# Altium schematic symbol library WCAP-CSMH.SchLib: 111 symbols (part 1 of 3)
Pins are listed as number, name and electrical type; pins without a type are passive.

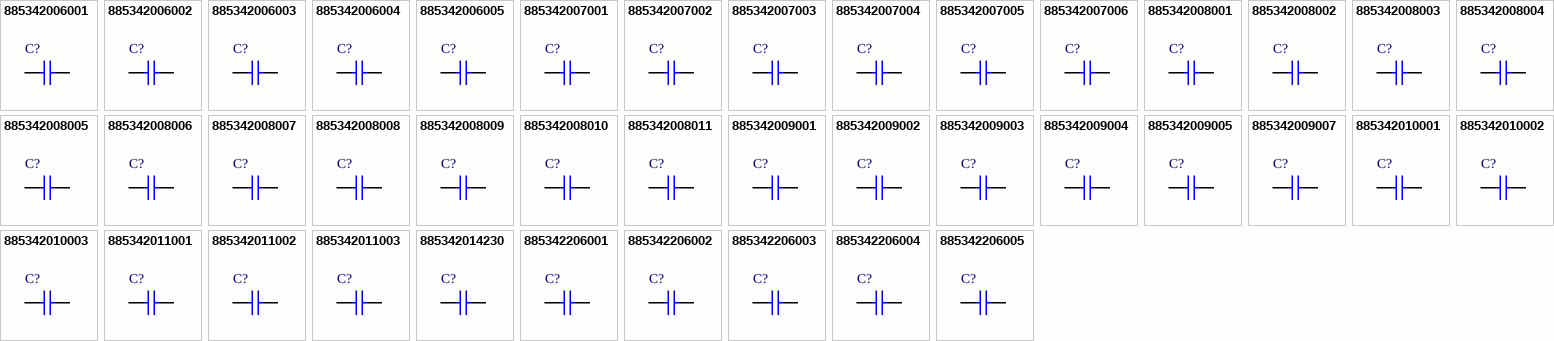
[diagram p0: symbols 885342006001 to 885342206005]

## 885342006001
designator C?, comment 10pF  (value not drawn)
WCAP-CSMH Multilayer Ceramic Chip Capacitor Mid and High Voltage, SMT, size 0603, NP0 Class I, 10pF, 250V; Manufacturer Part Number: 885342006001; Manufacturer: Wurth Elektronik; Case/Size Code: 0603; Capacitance Tolerance: +/-5%; Insulation Resistance: 10GΩ; Q Factor Min: 600; Category: Multilayer Ceramic Chip Capacitors; Match Code: WCAP-CSMH; ComponentLink1Description: Website Link; ComponentLink1URL: https://www.we-online.com/redexpert/article/885342006001?ad; ComponentLink2Description: Datasheet Link; ComponentLink2URL: https://www.we-online.com/redexpert/spec/885342006001?ad; Mount: Surface Mount; Min Operating Temperature: -55°C; Max Operating Temperature: 125°C; Packaging: Tape and Reel; Length: 1.6mm; Width: 0.8mm; Height: 0.8mm; Capacitance: 10pF; Ceramic Type: NP0 Class I; Rated Voltage (DC): 250V
footprint WCAP-CSMH_0603_H0.8_Reflow
footprint WCAP-CSMH_0603_H0.8_Wave
simulation model 0603_885342006001_10pF
pins: 1, 2

## 885342006002
designator C?, comment 33pF  (value not drawn)
WCAP-CSMH Multilayer Ceramic Chip Capacitor Mid and High Voltage, SMT, size 0603, NP0 Class I, 33pF, 250V; Manufacturer Part Number: 885342006002; Manufacturer: Wurth Elektronik; Case/Size Code: 0603; Capacitance Tolerance: +/-5%; Insulation Resistance: 10GΩ; Q Factor Min: 1000; Category: Multilayer Ceramic Chip Capacitors; Match Code: WCAP-CSMH; ComponentLink1Description: Website Link; ComponentLink1URL: https://www.we-online.com/redexpert/article/885342006002?ad; ComponentLink2Description: Datasheet Link; ComponentLink2URL: https://www.we-online.com/redexpert/spec/885342006002?ad; Mount: Surface Mount; Min Operating Temperature: -55°C; Max Operating Temperature: 125°C; Packaging: Tape and Reel; Length: 1.6mm; Width: 0.8mm; Height: 0.8mm; Capacitance: 33pF; Ceramic Type: NP0 Class I; Rated Voltage (DC): 250V
footprint WCAP-CSMH_0603_H0.8_Reflow
footprint WCAP-CSMH_0603_H0.8_Wave
simulation model 0603_885342006002_33pF
pins: 1, 2

## 885342006003
designator C?, comment 100pF  (value not drawn)
WCAP-CSMH Multilayer Ceramic Chip Capacitor Mid and High Voltage, SMT, size 0603, NP0 Class I, 100pF, 250V; Manufacturer Part Number: 885342006003; Manufacturer: Wurth Elektronik; Case/Size Code: 0603; Capacitance Tolerance: +/-5%; Insulation Resistance: 10GΩ; Q Factor Min: 1000; Category: Multilayer Ceramic Chip Capacitors; Match Code: WCAP-CSMH; ComponentLink1Description: Website Link; ComponentLink1URL: https://www.we-online.com/redexpert/article/885342006003?ad; ComponentLink2Description: Datasheet Link; ComponentLink2URL: https://www.we-online.com/redexpert/spec/885342006003?ad; Mount: Surface Mount; Min Operating Temperature: -55°C; Max Operating Temperature: 125°C; Packaging: Tape and Reel; Length: 1.6mm; Width: 0.8mm; Height: 0.8mm; Capacitance: 100pF; Ceramic Type: NP0 Class I; Rated Voltage (DC): 250V
footprint WCAP-CSMH_0603_H0.8_Reflow
footprint WCAP-CSMH_0603_H0.8_Wave
simulation model 0603_885342006003_100pF
pins: 1, 2

## 885342006004
designator C?, comment 220pF  (value not drawn)
WCAP-CSMH Multilayer Ceramic Chip Capacitor Mid and High Voltage, SMT, size 0603, NP0 Class I, 220pF, 250V; Manufacturer Part Number: 885342006004; Manufacturer: Wurth Elektronik; Case/Size Code: 0603; Capacitance Tolerance: +/-5%; Insulation Resistance: 10GΩ; Q Factor Min: 1000; Category: Multilayer Ceramic Chip Capacitors; Match Code: WCAP-CSMH; ComponentLink1Description: Website Link; ComponentLink1URL: https://www.we-online.com/redexpert/article/885342006004?ad; ComponentLink2Description: Datasheet Link; ComponentLink2URL: https://www.we-online.com/redexpert/spec/885342006004?ad; Mount: Surface Mount; Min Operating Temperature: -55°C; Max Operating Temperature: 125°C; Packaging: Tape and Reel; Length: 1.6mm; Width: 0.8mm; Height: 0.8mm; Capacitance: 220pF; Ceramic Type: NP0 Class I; Rated Voltage (DC): 250V
footprint WCAP-CSMH_0603_H0.8_Reflow
footprint WCAP-CSMH_0603_H0.8_Wave
simulation model 0603_885342006004_220pF
pins: 1, 2

## 885342006005
designator C?, comment 470pF  (value not drawn)
WCAP-CSMH Multilayer Ceramic Chip Capacitor Mid and High Voltage, SMT, size 0603, NP0 Class I, 470pF, 250V; Manufacturer Part Number: 885342006005; Manufacturer: Wurth Elektronik; Case/Size Code: 0603; Capacitance Tolerance: +/-5%; Insulation Resistance: 10GΩ; Q Factor Min: 1000; Category: Multilayer Ceramic Chip Capacitors; Match Code: WCAP-CSMH; ComponentLink1Description: Website Link; ComponentLink1URL: https://www.we-online.com/redexpert/article/885342006005?ad; ComponentLink2Description: Datasheet Link; ComponentLink2URL: https://www.we-online.com/redexpert/spec/885342006005?ad; Mount: Surface Mount; Min Operating Temperature: -55°C; Max Operating Temperature: 125°C; Packaging: Tape and Reel; Length: 1.6mm; Width: 0.8mm; Height: 0.8mm; Capacitance: 470pF; Ceramic Type: NP0 Class I; Rated Voltage (DC): 250V
footprint WCAP-CSMH_0603_H0.8_Reflow
footprint WCAP-CSMH_0603_H0.8_Wave
simulation model 0603_885342006005_470pF
pins: 1, 2

## 885342007001
designator C?, comment 220pF  (value not drawn)
WCAP-CSMH Multilayer Ceramic Chip Capacitor Mid and High Voltage, SMT, size 0805, NP0 Class I, 220pF, 200V; Manufacturer Part Number: 885342007001; Manufacturer: Wurth Elektronik; Case/Size Code: 0805; Capacitance Tolerance: +/-5%; Insulation Resistance: 10GΩ; Q Factor Min: 1000; Category: Multilayer Ceramic Chip Capacitors; Match Code: WCAP-CSMH; ComponentLink1Description: Website Link; ComponentLink1URL: https://www.we-online.com/redexpert/article/885342007001?ad; ComponentLink2Description: Datasheet Link; ComponentLink2URL: https://www.we-online.com/redexpert/spec/885342007001?ad; Mount: Surface Mount; Min Operating Temperature: -55°C; Max Operating Temperature: 125°C; Packaging: Tape and Reel; Length: 2mm; Width: 1.25mm; Height: 1.25mm; Capacitance: 220pF; Ceramic Type: NP0 Class I; Rated Voltage (DC): 200V
footprint WCAP-CSMH_0805_H1.25
simulation model 0805_885342007001_220pF
pins: 1, 2

## 885342007002
designator C?, comment 330pF  (value not drawn)
WCAP-CSMH Multilayer Ceramic Chip Capacitor Mid and High Voltage, SMT, size 0805, NP0 Class I, 330pF, 200V; Manufacturer Part Number: 885342007002; Manufacturer: Wurth Elektronik; Case/Size Code: 0805; Capacitance Tolerance: +/-5%; Insulation Resistance: 10GΩ; Q Factor Min: 1000; Category: Multilayer Ceramic Chip Capacitors; Match Code: WCAP-CSMH; ComponentLink1Description: Website Link; ComponentLink1URL: https://www.we-online.com/redexpert/article/885342007002?ad; ComponentLink2Description: Datasheet Link; ComponentLink2URL: https://www.we-online.com/redexpert/spec/885342007002?ad; Mount: Surface Mount; Min Operating Temperature: -55°C; Max Operating Temperature: 125°C; Packaging: Tape and Reel; Length: 2mm; Width: 1.25mm; Height: 1.25mm; Capacitance: 330pF; Ceramic Type: NP0 Class I; Rated Voltage (DC): 200V
footprint WCAP-CSMH_0805_H1.25
simulation model 0805_885342007002_330pF
pins: 1, 2

## 885342007003
designator C?, comment 1nF  (value not drawn)
WCAP-CSMH Multilayer Ceramic Chip Capacitor Mid and High Voltage, SMT, size 0805, NP0 Class I, 1nF, 200V; Manufacturer Part Number: 885342007003; Manufacturer: Wurth Elektronik; Case/Size Code: 0805; Capacitance Tolerance: +/-5%; Insulation Resistance: 10GΩ; Q Factor Min: 1000; Category: Multilayer Ceramic Chip Capacitors; Match Code: WCAP-CSMH; ComponentLink1Description: Website Link; ComponentLink1URL: https://www.we-online.com/redexpert/article/885342007003?ad; ComponentLink2Description: Datasheet Link; ComponentLink2URL: https://www.we-online.com/redexpert/spec/885342007003?ad; Mount: Surface Mount; Min Operating Temperature: -55°C; Max Operating Temperature: 125°C; Packaging: Tape and Reel; Length: 2mm; Width: 1.25mm; Height: 1.25mm; Capacitance: 1nF; Ceramic Type: NP0 Class I; Rated Voltage (DC): 200V
footprint WCAP-CSMH_0805_H1.25
simulation model 0805_885342007003_1nF
pins: 1, 2

## 885342007004
designator C?, comment 15pF  (value not drawn)
WCAP-CSMH Multilayer Ceramic Chip Capacitor Mid and High Voltage, SMT, size 0805, NP0 Class I, 15pF, 250V; Manufacturer Part Number: 885342007004; Manufacturer: Wurth Elektronik; Case/Size Code: 0805; Capacitance Tolerance: +/-5%; Insulation Resistance: 10GΩ; Q Factor Min: 700; Category: Multilayer Ceramic Chip Capacitors; Match Code: WCAP-CSMH; ComponentLink1Description: Website Link; ComponentLink1URL: https://www.we-online.com/redexpert/article/885342007004?ad; ComponentLink2Description: Datasheet Link; ComponentLink2URL: https://www.we-online.com/redexpert/spec/885342007004?ad; Mount: Surface Mount; Min Operating Temperature: -55°C; Max Operating Temperature: 125°C; Packaging: Tape and Reel; Length: 2mm; Width: 1.25mm; Height: 0.6mm; Capacitance: 15pF; Ceramic Type: NP0 Class I; Rated Voltage (DC): 250V
footprint WCAP-CSMH_0805_H0.6_Reflow
footprint WCAP-CSMH_0805_H0.6_Wave
simulation model 0805_885342007004_15pF
pins: 1, 2

## 885342007005
designator C?, comment 2.2nF  (value not drawn)
WCAP-CSMH Multilayer Ceramic Chip Capacitor Mid and High Voltage, SMT, size 0805, NP0 Class I, 2.2nF, 250V; Manufacturer Part Number: 885342007005; Manufacturer: Wurth Elektronik; Case/Size Code: 0805; Capacitance Tolerance: +/-5%; Insulation Resistance: 10GΩ; Q Factor Min: 1000; Category: Multilayer Ceramic Chip Capacitors; Match Code: WCAP-CSMH; ComponentLink1Description: Website Link; ComponentLink1URL: https://www.we-online.com/redexpert/article/885342007005?ad; ComponentLink2Description: Datasheet Link; ComponentLink2URL: https://www.we-online.com/redexpert/spec/885342007005?ad; Mount: Surface Mount; Min Operating Temperature: -55°C; Max Operating Temperature: 125°C; Packaging: Tape and Reel; Length: 2mm; Width: 1.25mm; Height: 1.25mm; Capacitance: 2.2nF; Ceramic Type: NP0 Class I; Rated Voltage (DC): 250V
footprint WCAP-CSMH_0805_H1.25
simulation model 0805_885342007005_2.2nF
pins: 1, 2

## 885342007006
designator C?, comment 47pF  (value not drawn)
WCAP-CSMH Multilayer Ceramic Chip Capacitor Mid and High Voltage, SMT, size 0805, NP0 Class I, 47pF, 500V; Manufacturer Part Number: 885342007006; Manufacturer: Wurth Elektronik; Case/Size Code: 0805; Capacitance Tolerance: +/-5%; Insulation Resistance: 10GΩ; Q Factor Min: 1000; Category: Multilayer Ceramic Chip Capacitors; Match Code: WCAP-CSMH; ComponentLink1Description: Website Link; ComponentLink1URL: https://www.we-online.com/redexpert/article/885342007006?ad; ComponentLink2Description: Datasheet Link; ComponentLink2URL: https://www.we-online.com/redexpert/spec/885342007006?ad; Mount: Surface Mount; Min Operating Temperature: -55°C; Max Operating Temperature: 125°C; Packaging: Tape and Reel; Length: 2mm; Width: 1.25mm; Height: 0.6mm; Capacitance: 47pF; Ceramic Type: NP0 Class I; Rated Voltage (DC): 500V
footprint WCAP-CSMH_0805_H0.6_Reflow
footprint WCAP-CSMH_0805_H0.6_Wave
simulation model 0805_885342007006_47pF
pins: 1, 2

## 885342008001
designator C?, comment 47pF  (value not drawn)
WCAP-CSMH Multilayer Ceramic Chip Capacitor Mid and High Voltage, SMT, size 1206, NP0 Class I, 47pF, 500V; Manufacturer Part Number: 885342008001; Manufacturer: Wurth Elektronik; Case/Size Code: 1206; Capacitance Tolerance: +/-5%; Insulation Resistance: 10GΩ; Q Factor Min: 1000; Category: Multilayer Ceramic Chip Capacitors; Match Code: WCAP-CSMH; ComponentLink1Description: Website Link; ComponentLink1URL: https://www.we-online.com/redexpert/article/885342008001?ad; ComponentLink2Description: Datasheet Link; ComponentLink2URL: https://www.we-online.com/redexpert/spec/885342008001?ad; Mount: Surface Mount; Min Operating Temperature: -55°C; Max Operating Temperature: 125°C; Packaging: Tape and Reel; Length: 3.2mm; Width: 1.6mm; Height: 0.8mm; Capacitance: 47pF; Ceramic Type: NP0 Class I; Rated Voltage (DC): 500V
footprint WCAP-CSMH_1206_H0.8_Reflow
footprint WCAP-CSMH_1206_H0.8_Wave
simulation model 1206_885342008001_47pF
pins: 1, 2

## 885342008002
designator C?, comment 220pF  (value not drawn)
WCAP-CSMH Multilayer Ceramic Chip Capacitor Mid and High Voltage, SMT, size 1206, NP0 Class I, 220pF, 500V; Manufacturer Part Number: 885342008002; Manufacturer: Wurth Elektronik; Case/Size Code: 1206; Capacitance Tolerance: +/-5%; Insulation Resistance: 10GΩ; Q Factor Min: 1000; Category: Multilayer Ceramic Chip Capacitors; Match Code: WCAP-CSMH; ComponentLink1Description: Website Link; ComponentLink1URL: https://www.we-online.com/redexpert/article/885342008002?ad; ComponentLink2Description: Datasheet Link; ComponentLink2URL: https://www.we-online.com/redexpert/spec/885342008002?ad; Mount: Surface Mount; Min Operating Temperature: -55°C; Max Operating Temperature: 125°C; Packaging: Tape and Reel; Length: 3.2mm; Width: 1.6mm; Height: 0.8mm; Capacitance: 220pF; Ceramic Type: NP0 Class I; Rated Voltage (DC): 500V
footprint WCAP-CSMH_1206_H0.8_Reflow
footprint WCAP-CSMH_1206_H0.8_Wave
simulation model 1206_885342008002_220pF
pins: 1, 2

## 885342008003
designator C?, comment 1nF  (value not drawn)
WCAP-CSMH Multilayer Ceramic Chip Capacitor Mid and High Voltage, SMT, size 1206, NP0 Class I, 1nF, 500V; Manufacturer Part Number: 885342008003; Manufacturer: Wurth Elektronik; Case/Size Code: 1206; Capacitance Tolerance: +/-5%; Insulation Resistance: 10GΩ; Q Factor Min: 1000; Category: Multilayer Ceramic Chip Capacitors; Match Code: WCAP-CSMH; ComponentLink1Description: Website Link; ComponentLink1URL: https://www.we-online.com/redexpert/article/885342008003?ad; ComponentLink2Description: Datasheet Link; ComponentLink2URL: https://www.we-online.com/redexpert/spec/885342008003?ad; Mount: Surface Mount; Min Operating Temperature: -55°C; Max Operating Temperature: 125°C; Packaging: Tape and Reel; Length: 3.2mm; Width: 1.6mm; Height: 1.6mm; Capacitance: 1nF; Ceramic Type: NP0 Class I; Rated Voltage (DC): 500V
footprint WCAP-CSMH_1206_H1.6
simulation model 1206_885342008003_1nF
pins: 1, 2

## 885342008004
designator C?, comment 100pF  (value not drawn)
WCAP-CSMH Multilayer Ceramic Chip Capacitor Mid and High Voltage, SMT, size 1206, NP0 Class I, 100pF, 630V; Manufacturer Part Number: 885342008004; Manufacturer: Wurth Elektronik; Case/Size Code: 1206; Capacitance Tolerance: +/-5%; Insulation Resistance: 10GΩ; Q Factor Min: 1000; Category: Multilayer Ceramic Chip Capacitors; Match Code: WCAP-CSMH; ComponentLink1Description: Website Link; ComponentLink1URL: https://www.we-online.com/redexpert/article/885342008004?ad; ComponentLink2Description: Datasheet Link; ComponentLink2URL: https://www.we-online.com/redexpert/spec/885342008004?ad; Mount: Surface Mount; Min Operating Temperature: -55°C; Max Operating Temperature: 125°C; Packaging: Tape and Reel; Length: 3.2mm; Width: 1.6mm; Height: 0.8mm; Capacitance: 100pF; Ceramic Type: NP0 Class I; Rated Voltage (DC): 630V
footprint WCAP-CSMH_1206_H0.8_Reflow
footprint WCAP-CSMH_1206_H0.8_Wave
simulation model 1206_885342008004_100pF
pins: 1, 2

## 885342008005
designator C?, comment 1nF  (value not drawn)
WCAP-CSMH Multilayer Ceramic Chip Capacitor Mid and High Voltage, SMT, size 1206, NP0 Class I, 1nF, 630V; Manufacturer Part Number: 885342008005; Manufacturer: Wurth Elektronik; Case/Size Code: 1206; Capacitance Tolerance: +/-5%; Insulation Resistance: 10GΩ; Q Factor Min: 1000; Category: Multilayer Ceramic Chip Capacitors; Match Code: WCAP-CSMH; ComponentLink1Description: Website Link; ComponentLink1URL: https://www.we-online.com/redexpert/article/885342008005?ad; ComponentLink2Description: Datasheet Link; ComponentLink2URL: https://www.we-online.com/redexpert/spec/885342008005?ad; Mount: Surface Mount; Min Operating Temperature: -55°C; Max Operating Temperature: 125°C; Packaging: Tape and Reel; Length: 3.2mm; Width: 1.6mm; Height: 1.6mm; Capacitance: 1nF; Ceramic Type: NP0 Class I; Rated Voltage (DC): 630V
footprint WCAP-CSMH_1206_H1.6
simulation model 1206_885342008005_1nF
pins: 1, 2

## 885342008006
designator C?, comment 1.5nF  (value not drawn)
WCAP-CSMH Multilayer Ceramic Chip Capacitor Mid and High Voltage, SMT, size 1206, NP0 Class I, 1.5nF, 630V; Manufacturer Part Number: 885342008006; Manufacturer: Wurth Elektronik; Case/Size Code: 1206; Capacitance Tolerance: +/-5%; Insulation Resistance: 10GΩ; Q Factor Min: 1000; Category: Multilayer Ceramic Chip Capacitors; Match Code: WCAP-CSMH; ComponentLink1Description: Website Link; ComponentLink1URL: https://www.we-online.com/redexpert/article/885342008006?ad; ComponentLink2Description: Datasheet Link; ComponentLink2URL: https://www.we-online.com/redexpert/spec/885342008006?ad; Mount: Surface Mount; Min Operating Temperature: -55°C; Max Operating Temperature: 125°C; Packaging: Tape and Reel; Length: 3.2mm; Width: 1.6mm; Height: 1.6mm; Capacitance: 1.5nF; Ceramic Type: NP0 Class I; Rated Voltage (DC): 630V
footprint WCAP-CSMH_1206_H1.6
simulation model 1206_885342008006_1.5nF
pins: 1, 2

## 885342008007
designator C?, comment 2.2nF  (value not drawn)
WCAP-CSMH Multilayer Ceramic Chip Capacitor Mid and High Voltage, SMT, size 1206, NP0 Class I, 2.2nF, 630V; Manufacturer Part Number: 885342008007; Manufacturer: Wurth Elektronik; Case/Size Code: 1206; Capacitance Tolerance: +/-5%; Insulation Resistance: 10GΩ; Q Factor Min: 1000; Category: Multilayer Ceramic Chip Capacitors; Match Code: WCAP-CSMH; ComponentLink1Description: Website Link; ComponentLink1URL: https://www.we-online.com/redexpert/article/885342008007?ad; ComponentLink2Description: Datasheet Link; ComponentLink2URL: https://www.we-online.com/redexpert/spec/885342008007?ad; Mount: Surface Mount; Min Operating Temperature: -55°C; Max Operating Temperature: 125°C; Packaging: Tape and Reel; Length: 3.2mm; Width: 1.6mm; Height: 1.6mm; Capacitance: 2.2nF; Ceramic Type: NP0 Class I; Rated Voltage (DC): 630V
footprint WCAP-CSMH_1206_H1.6
simulation model 1206_885342008007_2.2nF
pins: 1, 2

## 885342008008
designator C?, comment 22pF  (value not drawn)
WCAP-CSMH Multilayer Ceramic Chip Capacitor Mid and High Voltage, SMT, size 1206, NP0 Class I, 22pF, 1000V; Manufacturer Part Number: 885342008008; Manufacturer: Wurth Elektronik; Case/Size Code: 1206; Capacitance Tolerance: +/-5%; Insulation Resistance: 10GΩ; Q Factor Min: 840; Category: Multilayer Ceramic Chip Capacitors; Match Code: WCAP-CSMH; ComponentLink1Description: Website Link; ComponentLink1URL: https://www.we-online.com/redexpert/article/885342008008?ad; ComponentLink2Description: Datasheet Link; ComponentLink2URL: https://www.we-online.com/redexpert/spec/885342008008?ad; Mount: Surface Mount; Min Operating Temperature: -55°C; Max Operating Temperature: 125°C; Packaging: Tape and Reel; Length: 3.2mm; Width: 1.6mm; Height: 0.8mm; Capacitance: 22pF; Ceramic Type: NP0 Class I; Rated Voltage (DC): 1000V
footprint WCAP-CSMH_1206_H0.8_Reflow
footprint WCAP-CSMH_1206_H0.8_Wave
simulation model 1206_885342008008_22pF
pins: 1, 2

## 885342008009
designator C?, comment 100pF  (value not drawn)
WCAP-CSMH Multilayer Ceramic Chip Capacitor Mid and High Voltage, SMT, size 1206, NP0 Class I, 100pF, 1000V; Manufacturer Part Number: 885342008009; Manufacturer: Wurth Elektronik; Case/Size Code: 1206; Capacitance Tolerance: +/-5%; Insulation Resistance: 10GΩ; Q Factor Min: 1000; Category: Multilayer Ceramic Chip Capacitors; Match Code: WCAP-CSMH; ComponentLink1Description: Website Link; ComponentLink1URL: https://www.we-online.com/redexpert/article/885342008009?ad; ComponentLink2Description: Datasheet Link; ComponentLink2URL: https://www.we-online.com/redexpert/spec/885342008009?ad; Mount: Surface Mount; Min Operating Temperature: -55°C; Max Operating Temperature: 125°C; Packaging: Tape and Reel; Length: 3.2mm; Width: 1.6mm; Height: 1.25mm; Capacitance: 100pF; Ceramic Type: NP0 Class I; Rated Voltage (DC): 1000V
footprint WCAP-CSMH_1206_H1.25
simulation model 1206_885342008009_100pF
pins: 1, 2

## 885342008010
designator C?, comment 68pF  (value not drawn)
WCAP-CSMH Multilayer Ceramic Chip Capacitor Mid and High Voltage, SMT, size 1206, NP0 Class I, 68pF, 2000V; Manufacturer Part Number: 885342008010; Manufacturer: Wurth Elektronik; Case/Size Code: 1206; Capacitance Tolerance: +/-5%; Insulation Resistance: 10GΩ; Q Factor Min: 1000; Category: Multilayer Ceramic Chip Capacitors; Match Code: WCAP-CSMH; ComponentLink1Description: Website Link; ComponentLink1URL: https://www.we-online.com/redexpert/article/885342008010?ad; ComponentLink2Description: Datasheet Link; ComponentLink2URL: https://www.we-online.com/redexpert/spec/885342008010?ad; Mount: Surface Mount; Min Operating Temperature: -55°C; Max Operating Temperature: 125°C; Packaging: Tape and Reel; Length: 3.2mm; Width: 1.6mm; Height: 1.25mm; Capacitance: 68pF; Ceramic Type: NP0 Class I; Rated Voltage (DC): 2000V
footprint WCAP-CSMH_1206_H1.25
simulation model 1206_885342008010_68pF
pins: 1, 2

## 885342008011
designator C?, comment 100pF  (value not drawn)
WCAP-CSMH Multilayer Ceramic Chip Capacitor Mid and High Voltage, SMT, size 1206, NP0 Class I, 100pF, 2000V; Manufacturer Part Number: 885342008011; Manufacturer: Wurth Elektronik; Case/Size Code: 1206; Capacitance Tolerance: +/-5%; Insulation Resistance: 10GΩ; Q Factor Min: 1000; Category: Multilayer Ceramic Chip Capacitors; Match Code: WCAP-CSMH; ComponentLink1Description: Website Link; ComponentLink1URL: https://www.we-online.com/redexpert/article/885342008011?ad; ComponentLink2Description: Datasheet Link; ComponentLink2URL: https://www.we-online.com/redexpert/spec/885342008011?ad; Mount: Surface Mount; Min Operating Temperature: -55°C; Max Operating Temperature: 125°C; Packaging: Tape and Reel; Length: 3.2mm; Width: 1.6mm; Height: 1.25mm; Capacitance: 100pF; Ceramic Type: NP0 Class I; Rated Voltage (DC): 2000V
footprint WCAP-CSMH_1206_H1.25
simulation model 1206_885342008011_100pF
pins: 1, 2

## 885342009001
designator C?, comment 4.7nF  (value not drawn)
WCAP-CSMH Multilayer Ceramic Chip Capacitor Mid and High Voltage, SMT, size 1210, NP0 Class I, 4.7nF, 200V; Manufacturer Part Number: 885342009001; Manufacturer: Wurth Elektronik; Case/Size Code: 1210; Capacitance Tolerance: +/-5%; Insulation Resistance: 10GΩ; Q Factor Min: 1000; Category: Multilayer Ceramic Chip Capacitors; Match Code: WCAP-CSMH; ComponentLink1Description: Website Link; ComponentLink1URL: https://www.we-online.com/redexpert/article/885342009001?ad; ComponentLink2Description: Datasheet Link; ComponentLink2URL: https://www.we-online.com/redexpert/spec/885342009001?ad; Mount: Surface Mount; Min Operating Temperature: -55°C; Max Operating Temperature: 125°C; Packaging: Tape and Reel; Length: 3.2mm; Width: 2.5mm; Height: 1.6mm; Capacitance: 4.7nF; Ceramic Type: NP0 Class I; Rated Voltage (DC): 200V
footprint WCAP-CSMH_1210_H1.6
simulation model 1210_885342009001_4.7nF
pins: 1, 2

## 885342009002
designator C?, comment 22pF  (value not drawn)
WCAP-CSMH Multilayer Ceramic Chip Capacitor Mid and High Voltage, SMT, size 1210, NP0 Class I, 22pF, 1000V; Manufacturer Part Number: 885342009002; Manufacturer: Wurth Elektronik; Case/Size Code: 1210; Capacitance Tolerance: +/-5%; Insulation Resistance: 10GΩ; Q Factor Min: 840; Category: Multilayer Ceramic Chip Capacitors; Match Code: WCAP-CSMH; ComponentLink1Description: Website Link; ComponentLink1URL: https://www.we-online.com/redexpert/article/885342009002?ad; ComponentLink2Description: Datasheet Link; ComponentLink2URL: https://www.we-online.com/redexpert/spec/885342009002?ad; Mount: Surface Mount; Min Operating Temperature: -55°C; Max Operating Temperature: 125°C; Packaging: Tape and Reel; Length: 3.2mm; Width: 2.5mm; Height: 0.95mm; Capacitance: 22pF; Ceramic Type: NP0 Class I; Rated Voltage (DC): 1000V
footprint WCAP-CSMH_1210_H0.95
simulation model 1210_885342009002_22pF
pins: 1, 2

## 885342009003
designator C?, comment 1nF  (value not drawn)
WCAP-CSMH Multilayer Ceramic Chip Capacitor Mid and High Voltage, SMT, size 1210, NP0 Class I, 1nF, 1000V; Manufacturer Part Number: 885342009003; Manufacturer: Wurth Elektronik; Case/Size Code: 1210; Capacitance Tolerance: +/-5%; Insulation Resistance: 10GΩ; Q Factor Min: 1000; Category: Multilayer Ceramic Chip Capacitors; Match Code: WCAP-CSMH; ComponentLink1Description: Website Link; ComponentLink1URL: https://www.we-online.com/redexpert/article/885342009003?ad; ComponentLink2Description: Datasheet Link; ComponentLink2URL: https://www.we-online.com/redexpert/spec/885342009003?ad; Mount: Surface Mount; Min Operating Temperature: -55°C; Max Operating Temperature: 125°C; Packaging: Tape and Reel; Length: 3.2mm; Width: 2.5mm; Height: 1.6mm; Capacitance: 1nF; Ceramic Type: NP0 Class I; Rated Voltage (DC): 1000V
footprint WCAP-CSMH_1210_H1.6
simulation model 1210_885342009003_1nF
pins: 1, 2

## 885342009004
designator C?, comment 10pF  (value not drawn)
WCAP-CSMH Multilayer Ceramic Chip Capacitor Mid and High Voltage, SMT, size 1210, NP0 Class I, 10pF, 2000V; Manufacturer Part Number: 885342009004; Manufacturer: Wurth Elektronik; Case/Size Code: 1210; Capacitance Tolerance: +/-5%; Insulation Resistance: 10GΩ; Q Factor Min: 600; Category: Multilayer Ceramic Chip Capacitors; Match Code: WCAP-CSMH; ComponentLink1Description: Website Link; ComponentLink1URL: https://www.we-online.com/redexpert/article/885342009004?ad; ComponentLink2Description: Datasheet Link; ComponentLink2URL: https://www.we-online.com/redexpert/spec/885342009004?ad; Mount: Surface Mount; Min Operating Temperature: -55°C; Max Operating Temperature: 125°C; Packaging: Tape and Reel; Length: 3.2mm; Width: 2.5mm; Height: 0.95mm; Capacitance: 10pF; Ceramic Type: NP0 Class I; Rated Voltage (DC): 2000V
footprint WCAP-CSMH_1210_H0.95
simulation model 1210_885342009004_10pF
pins: 1, 2

## 885342009005
designator C?, comment 220pF  (value not drawn)
WCAP-CSMH Multilayer Ceramic Chip Capacitor Mid and High Voltage, SMT, size 1210, NP0 Class I, 220pF, 2000V; Manufacturer Part Number: 885342009005; Manufacturer: Wurth Elektronik; Case/Size Code: 1210; Capacitance Tolerance: +/-5%; Insulation Resistance: 10GΩ; Q Factor Min: 1000; Category: Multilayer Ceramic Chip Capacitors; Match Code: WCAP-CSMH; ComponentLink1Description: Website Link; ComponentLink1URL: https://www.we-online.com/redexpert/article/885342009005?ad; ComponentLink2Description: Datasheet Link; ComponentLink2URL: https://www.we-online.com/redexpert/spec/885342009005?ad; Mount: Surface Mount; Min Operating Temperature: -55°C; Max Operating Temperature: 125°C; Packaging: Tape and Reel; Length: 3.2mm; Width: 2.5mm; Height: 1.6mm; Capacitance: 220pF; Ceramic Type: NP0 Class I; Rated Voltage (DC): 2000V
footprint WCAP-CSMH_1210_H1.6
simulation model 1210_885342009005_220pF
pins: 1, 2

## 885342009007
designator C?, comment 5.6nF  (value not drawn)
WCAP-CSMH Multilayer Ceramic Chip Capacitor Mid and High Voltage, SMT, size 1210, NP0 Class I, 5.6nF, 1000V; Manufacturer Part Number: 885342009007; Manufacturer: Wurth Elektronik; Case/Size Code: 1210; Capacitance Tolerance: +/-5%; Insulation Resistance: 10GΩ; Category: Multilayer Ceramic Chip Capacitors; Match Code: WCAP-CSMH; ComponentLink1Description: Website Link; ComponentLink1URL: https://www.we-online.com/redexpert/article/885342009007?ad; ComponentLink2Description: Datasheet Link; ComponentLink2URL: https://www.we-online.com/redexpert/spec/885342009007?ad; Mount: Surface Mount; Min Operating Temperature: -55°C; Max Operating Temperature: 125°C; Packaging: Tape and Reel; Length: 3.2mm; Width: 2.5mm; Height: 1.6mm; Capacitance: 5.6nF; Ceramic Type: NP0 Class I; Rated Voltage (DC): 1000V
footprint WCAP-CSMH_1210_H1.6
simulation model 1210_885342009007_5.6nF
pins: 1, 2

## 885342010001
designator C?, comment 10pF  (value not drawn)
WCAP-CSMH Multilayer Ceramic Chip Capacitor Mid and High Voltage, SMT, size 1808, NP0 Class I, 10pF, 3000V; Manufacturer Part Number: 885342010001; Manufacturer: Wurth Elektronik; Case/Size Code: 1808; Capacitance Tolerance: +/-5%; Insulation Resistance: 10GΩ; Q Factor Min: 600; Category: Multilayer Ceramic Chip Capacitors; Match Code: WCAP-CSMH; ComponentLink1Description: Website Link; ComponentLink1URL: https://www.we-online.com/redexpert/article/885342010001?ad; ComponentLink2Description: Datasheet Link; ComponentLink2URL: https://www.we-online.com/redexpert/spec/885342010001?ad; Mount: Surface Mount; Min Operating Temperature: -55°C; Max Operating Temperature: 125°C; Packaging: Tape and Reel; Length: 4.5mm; Width: 2.03mm; Height: 1.25mm; Capacitance: 10pF; Ceramic Type: NP0 Class I; Rated Voltage (DC): 3000V
footprint WCAP-CSMH_1808_H1.25
simulation model 1808_885342010001_10pF
pins: 1, 2

## 885342010002
designator C?, comment 68pF  (value not drawn)
WCAP-CSMH Multilayer Ceramic Chip Capacitor Mid and High Voltage, SMT, size 1808, NP0 Class I, 68pF, 3000V; Manufacturer Part Number: 885342010002; Manufacturer: Wurth Elektronik; Case/Size Code: 1808; Capacitance Tolerance: +/-5%; Insulation Resistance: 10GΩ; Q Factor Min: 1000; Category: Multilayer Ceramic Chip Capacitors; Match Code: WCAP-CSMH; ComponentLink1Description: Website Link; ComponentLink1URL: https://www.we-online.com/redexpert/article/885342010002?ad; ComponentLink2Description: Datasheet Link; ComponentLink2URL: https://www.we-online.com/redexpert/spec/885342010002?ad; Mount: Surface Mount; Min Operating Temperature: -55°C; Max Operating Temperature: 125°C; Packaging: Tape and Reel; Length: 4.5mm; Width: 2.03mm; Height: 1.25mm; Capacitance: 68pF; Ceramic Type: NP0 Class I; Rated Voltage (DC): 3000V
footprint WCAP-CSMH_1808_H1.25
simulation model 1808_885342010002_68pF
pins: 1, 2

## 885342010003
designator C?, comment 100pF  (value not drawn)
WCAP-CSMH Multilayer Ceramic Chip Capacitor Mid and High Voltage, SMT, size 1808, NP0 Class I, 100pF, 3000V; Manufacturer Part Number: 885342010003; Manufacturer: Wurth Elektronik; Case/Size Code: 1808; Capacitance Tolerance: +/-5%; Insulation Resistance: 10GΩ; Q Factor Min: 1000; Category: Multilayer Ceramic Chip Capacitors; Match Code: WCAP-CSMH; ComponentLink1Description: Website Link; ComponentLink1URL: https://www.we-online.com/redexpert/article/885342010003?ad; ComponentLink2Description: Datasheet Link; ComponentLink2URL: https://www.we-online.com/redexpert/spec/885342010003?ad; Mount: Surface Mount; Min Operating Temperature: -55°C; Max Operating Temperature: 125°C; Packaging: Tape and Reel; Length: 4.5mm; Width: 2.03mm; Height: 2mm; Capacitance: 100pF; Ceramic Type: NP0 Class I; Rated Voltage (DC): 3000V
footprint WCAP-CSMH_1808_H2
simulation model 1808_885342010003_100pF
pins: 1, 2

## 885342011001
designator C?, comment 1nF  (value not drawn)
WCAP-CSMH Multilayer Ceramic Chip Capacitor Mid and High Voltage, SMT, size 1812, NP0 Class I, 1nF, 500V; Manufacturer Part Number: 885342011001; Manufacturer: Wurth Elektronik; Case/Size Code: 1812; Capacitance Tolerance: +/-5%; Insulation Resistance: 10GΩ; Q Factor Min: 1000; Category: Multilayer Ceramic Chip Capacitors; Match Code: WCAP-CSMH; ComponentLink1Description: Website Link; ComponentLink1URL: https://www.we-online.com/redexpert/article/885342011001?ad; ComponentLink2Description: Datasheet Link; ComponentLink2URL: https://www.we-online.com/redexpert/spec/885342011001?ad; Mount: Surface Mount; Min Operating Temperature: -55°C; Max Operating Temperature: 125°C; Packaging: Tape and Reel; Length: 4.5mm; Width: 3.2mm; Height: 1.25mm; Capacitance: 1nF; Ceramic Type: NP0 Class I; Rated Voltage (DC): 500V
footprint WCAP-CSMH_1812_H1.25
simulation model 1812_885342011001_1nF
pins: 1, 2

## 885342011002
designator C?, comment 100pF  (value not drawn)
WCAP-CSMH Multilayer Ceramic Chip Capacitor Mid and High Voltage, SMT, size 1812, NP0 Class I, 100pF, 1000V; Manufacturer Part Number: 885342011002; Manufacturer: Wurth Elektronik; Case/Size Code: 1812; Capacitance Tolerance: +/-5%; Insulation Resistance: 10GΩ; Q Factor Min: 1000; Category: Multilayer Ceramic Chip Capacitors; Match Code: WCAP-CSMH; ComponentLink1Description: Website Link; ComponentLink1URL: https://www.we-online.com/redexpert/article/885342011002?ad; ComponentLink2Description: Datasheet Link; ComponentLink2URL: https://www.we-online.com/redexpert/spec/885342011002?ad; Mount: Surface Mount; Min Operating Temperature: -55°C; Max Operating Temperature: 125°C; Packaging: Tape and Reel; Length: 4.5mm; Width: 3.2mm; Height: 1.25mm; Capacitance: 100pF; Ceramic Type: NP0 Class I; Rated Voltage (DC): 1000V
footprint WCAP-CSMH_1812_H1.25
simulation model 1812_885342011002_100pF
pins: 1, 2

## 885342011003
designator C?, comment 1.5nF  (value not drawn)
WCAP-CSMH Multilayer Ceramic Chip Capacitor Mid and High Voltage, SMT, size 1812, NP0 Class I, 1.5nF, 1000V; Manufacturer Part Number: 885342011003; Manufacturer: Wurth Elektronik; Case/Size Code: 1812; Capacitance Tolerance: +/-5%; Insulation Resistance: 10GΩ; Q Factor Min: 1000; Category: Multilayer Ceramic Chip Capacitors; Match Code: WCAP-CSMH; ComponentLink1Description: Website Link; ComponentLink1URL: https://www.we-online.com/redexpert/article/885342011003?ad; ComponentLink2Description: Datasheet Link; ComponentLink2URL: https://www.we-online.com/redexpert/spec/885342011003?ad; Mount: Surface Mount; Min Operating Temperature: -55°C; Max Operating Temperature: 125°C; Packaging: Tape and Reel; Length: 4.5mm; Width: 3.2mm; Height: 2mm; Capacitance: 1.5nF; Ceramic Type: NP0 Class I; Rated Voltage (DC): 1000V
footprint WCAP-CSMH_1812_H2
simulation model 1812_885342011003_1.5nF
pins: 1, 2

## 885342014230
designator C?, comment 100pF  (value not drawn)
WCAP-CSMH Multilayer Ceramic Chip Capacitor Mid and High Voltage, SMT, size 2220, NP0 Class I, 100pF, 2000V; Manufacturer Part Number: 885342014230; Manufacturer: Wurth Elektronik; Case/Size Code: 2220; Capacitance Tolerance: +/-5%; Dissipation Factor: 1000%; Insulation Resistance: 10GΩ; Category: Multilayer Ceramic Chip Capacitors; Match Code: WCAP-CSMH; ComponentLink1Description: Website Link; ComponentLink1URL: https://www.we-online.com/redexpert/article/885342014230?ad; ComponentLink2Description: Datasheet Link; ComponentLink2URL: https://www.we-online.com/redexpert/spec/885342014230?ad; Mount: Surface Mount; Min Operating Temperature: -55°C; Max Operating Temperature: 125°C; Packaging: Tape and Reel; Length: 5.7mm; Width: 5mm; Height: 2mm; Capacitance: 100pF; Ceramic Type: NP0 Class I; Rated Voltage (DC): 2000V
footprint WCAP-CSMH_2220_H2
simulation model 2220_885342014230_100pF
pins: 1, 2

## 885342206001
designator C?, comment 100pF  (value not drawn)
WCAP-CSMH Multilayer Ceramic Chip Capacitor Mid and High Voltage, SMT, size 0603, X7R Class II, 100pF, 250V; Manufacturer Part Number: 885342206001; Manufacturer: Wurth Elektronik; Case/Size Code: 0603; Capacitance Tolerance: +/-10%; Dissipation Factor: 2.5%; Insulation Resistance: 10GΩ; Category: Multilayer Ceramic Chip Capacitors; Match Code: WCAP-CSMH; ComponentLink1Description: Website Link; ComponentLink1URL: https://www.we-online.com/redexpert/article/885342206001?ad; ComponentLink2Description: Datasheet Link; ComponentLink2URL: https://www.we-online.com/redexpert/spec/885342206001?ad; Mount: Surface Mount; Min Operating Temperature: -55°C; Max Operating Temperature: 125°C; Packaging: Tape and Reel; Length: 1.6mm; Width: 0.8mm; Height: 0.8mm; Capacitance: 100pF; Ceramic Type: X7R Class II; Rated Voltage (DC): 250V
footprint WCAP-CSMH_0603_H0.8_Reflow
footprint WCAP-CSMH_0603_H0.8_Wave
simulation model 0603_885342206001_100pF
pins: 1, 2

## 885342206002
designator C?, comment 330pF  (value not drawn)
WCAP-CSMH Multilayer Ceramic Chip Capacitor Mid and High Voltage, SMT, size 0603, X7R Class II, 330pF, 250V; Manufacturer Part Number: 885342206002; Manufacturer: Wurth Elektronik; Case/Size Code: 0603; Capacitance Tolerance: +/-10%; Dissipation Factor: 2.5%; Insulation Resistance: 10GΩ; Category: Multilayer Ceramic Chip Capacitors; Match Code: WCAP-CSMH; ComponentLink1Description: Website Link; ComponentLink1URL: https://www.we-online.com/redexpert/article/885342206002?ad; ComponentLink2Description: Datasheet Link; ComponentLink2URL: https://www.we-online.com/redexpert/spec/885342206002?ad; Mount: Surface Mount; Min Operating Temperature: -55°C; Max Operating Temperature: 125°C; Packaging: Tape and Reel; Length: 1.6mm; Width: 0.8mm; Height: 0.8mm; Capacitance: 330pF; Ceramic Type: X7R Class II; Rated Voltage (DC): 250V
footprint WCAP-CSMH_0603_H0.8_Reflow
footprint WCAP-CSMH_0603_H0.8_Wave
simulation model 0603_885342206002_330pF
pins: 1, 2

## 885342206003
designator C?, comment 1nF  (value not drawn)
WCAP-CSMH Multilayer Ceramic Chip Capacitor Mid and High Voltage, SMT, size 0603, X7R Class II, 1nF, 250V; Manufacturer Part Number: 885342206003; Manufacturer: Wurth Elektronik; Case/Size Code: 0603; Capacitance Tolerance: +/-10%; Dissipation Factor: 2.5%; Insulation Resistance: 10GΩ; Category: Multilayer Ceramic Chip Capacitors; Match Code: WCAP-CSMH; ComponentLink1Description: Website Link; ComponentLink1URL: https://www.we-online.com/redexpert/article/885342206003?ad; ComponentLink2Description: Datasheet Link; ComponentLink2URL: https://www.we-online.com/redexpert/spec/885342206003?ad; Mount: Surface Mount; Min Operating Temperature: -55°C; Max Operating Temperature: 125°C; Packaging: Tape and Reel; Length: 1.6mm; Width: 0.8mm; Height: 0.8mm; Capacitance: 1nF; Ceramic Type: X7R Class II; Rated Voltage (DC): 250V
footprint WCAP-CSMH_0603_H0.8_Reflow
footprint WCAP-CSMH_0603_H0.8_Wave
simulation model 0603_885342206003_1nF
pins: 1, 2

## 885342206004
designator C?, comment 1.5nF  (value not drawn)
WCAP-CSMH Multilayer Ceramic Chip Capacitor Mid and High Voltage, SMT, size 0603, X7R Class II, 1.5nF, 250V; Manufacturer Part Number: 885342206004; Manufacturer: Wurth Elektronik; Case/Size Code: 0603; Capacitance Tolerance: +/-10%; Dissipation Factor: 2.5%; Insulation Resistance: 10GΩ; Category: Multilayer Ceramic Chip Capacitors; Match Code: WCAP-CSMH; ComponentLink1Description: Website Link; ComponentLink1URL: https://www.we-online.com/redexpert/article/885342206004?ad; ComponentLink2Description: Datasheet Link; ComponentLink2URL: https://www.we-online.com/redexpert/spec/885342206004?ad; Mount: Surface Mount; Min Operating Temperature: -55°C; Max Operating Temperature: 125°C; Packaging: Tape and Reel; Length: 1.6mm; Width: 0.8mm; Height: 0.8mm; Capacitance: 1.5nF; Ceramic Type: X7R Class II; Rated Voltage (DC): 250V
footprint WCAP-CSMH_0603_H0.8_Reflow
footprint WCAP-CSMH_0603_H0.8_Wave
simulation model 0603_885342206004_1.5nF
pins: 1, 2

## 885342206005
designator C?, comment 3.3nF  (value not drawn)
WCAP-CSMH Multilayer Ceramic Chip Capacitor Mid and High Voltage, SMT, size 0603, X7R Class II, 3.3nF, 250V; Manufacturer Part Number: 885342206005; Manufacturer: Wurth Elektronik; Case/Size Code: 0603; Capacitance Tolerance: +/-10%; Dissipation Factor: 2.5%; Insulation Resistance: 10GΩ; Category: Multilayer Ceramic Chip Capacitors; Match Code: WCAP-CSMH; ComponentLink1Description: Website Link; ComponentLink1URL: https://www.we-online.com/redexpert/article/885342206005?ad; ComponentLink2Description: Datasheet Link; ComponentLink2URL: https://www.we-online.com/redexpert/spec/885342206005?ad; Mount: Surface Mount; Min Operating Temperature: -55°C; Max Operating Temperature: 125°C; Packaging: Tape and Reel; Length: 1.6mm; Width: 0.8mm; Height: 0.8mm; Capacitance: 3.3nF; Ceramic Type: X7R Class II; Rated Voltage (DC): 250V
footprint WCAP-CSMH_0603_H0.8_Reflow
footprint WCAP-CSMH_0603_H0.8_Wave
simulation model 0603_885342206005_3.3nF
pins: 1, 2

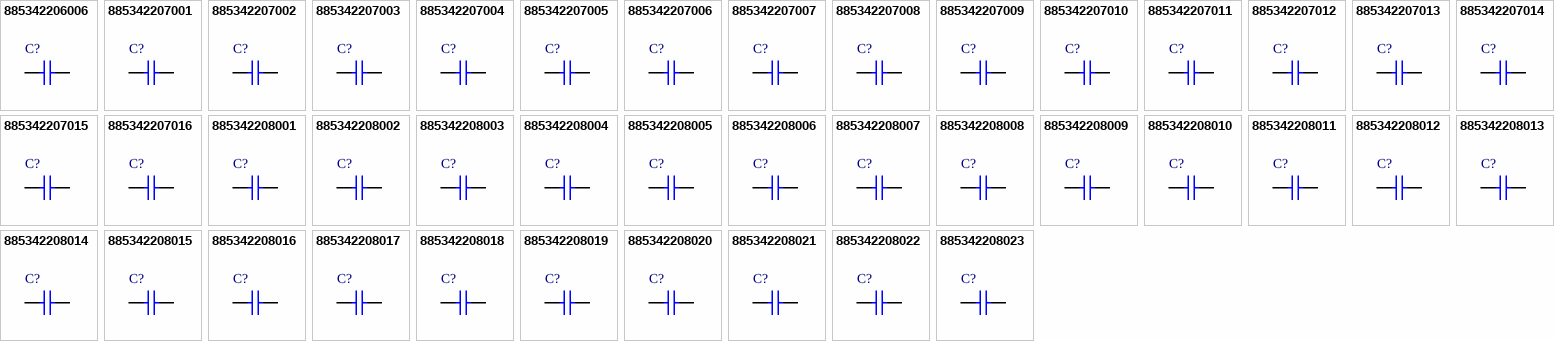
[diagram p1: symbols 885342206006 to 885342208023]

## 885342206006
designator C?, comment 10nF  (value not drawn)
WCAP-CSMH Multilayer Ceramic Chip Capacitor Mid and High Voltage, SMT, size 0603, X7R Class II, 10nF, 250V; Manufacturer Part Number: 885342206006; Manufacturer: Wurth Elektronik; Case/Size Code: 0603; Capacitance Tolerance: +/-10%; Dissipation Factor: 2.5%; Insulation Resistance: 10GΩ; Category: Multilayer Ceramic Chip Capacitors; Match Code: WCAP-CSMH; ComponentLink1Description: Website Link; ComponentLink1URL: https://www.we-online.com/redexpert/article/885342206006?ad; ComponentLink2Description: Datasheet Link; ComponentLink2URL: https://www.we-online.com/redexpert/spec/885342206006?ad; Mount: Surface Mount; Min Operating Temperature: -55°C; Max Operating Temperature: 125°C; Packaging: Tape and Reel; Length: 1.6mm; Width: 0.8mm; Height: 0.8mm; Capacitance: 10nF; Ceramic Type: X7R Class II; Rated Voltage (DC): 250V
footprint WCAP-CSMH_0603_H0.8_Reflow
footprint WCAP-CSMH_0603_H0.8_Wave
simulation model 0603_885342206006_10nF
pins: 1, 2

## 885342207001
designator C?, comment 100pF  (value not drawn)
WCAP-CSMH Multilayer Ceramic Chip Capacitor Mid and High Voltage, SMT, size 0805, X7R Class II, 100pF, 200V; Manufacturer Part Number: 885342207001; Manufacturer: Wurth Elektronik; Case/Size Code: 0805; Capacitance Tolerance: +/-10%; Dissipation Factor: 2.5%; Insulation Resistance: 10GΩ; Category: Multilayer Ceramic Chip Capacitors; Match Code: WCAP-CSMH; ComponentLink1Description: Website Link; ComponentLink1URL: https://www.we-online.com/redexpert/article/885342207001?ad; ComponentLink2Description: Datasheet Link; ComponentLink2URL: https://www.we-online.com/redexpert/spec/885342207001?ad; Mount: Surface Mount; Min Operating Temperature: -55°C; Max Operating Temperature: 125°C; Packaging: Tape and Reel; Length: 2mm; Width: 1.25mm; Height: 0.8mm; Capacitance: 100pF; Ceramic Type: X7R Class II; Rated Voltage (DC): 200V
footprint WCAP-CSMH_0805_H0.8_Reflow
footprint WCAP-CSMH_0805_H0.8_Wave
simulation model 0805_885342207001_100pF
pins: 1, 2

## 885342207002
designator C?, comment 470pF  (value not drawn)
WCAP-CSMH Multilayer Ceramic Chip Capacitor Mid and High Voltage, SMT, size 0805, X7R Class II, 470pF, 200V; Manufacturer Part Number: 885342207002; Manufacturer: Wurth Elektronik; Case/Size Code: 0805; Capacitance Tolerance: +/-10%; Dissipation Factor: 2.5%; Insulation Resistance: 10GΩ; Category: Multilayer Ceramic Chip Capacitors; Match Code: WCAP-CSMH; ComponentLink1Description: Website Link; ComponentLink1URL: https://www.we-online.com/redexpert/article/885342207002?ad; ComponentLink2Description: Datasheet Link; ComponentLink2URL: https://www.we-online.com/redexpert/spec/885342207002?ad; Mount: Surface Mount; Min Operating Temperature: -55°C; Max Operating Temperature: 125°C; Packaging: Tape and Reel; Length: 2mm; Width: 1.25mm; Height: 0.8mm; Capacitance: 470pF; Ceramic Type: X7R Class II; Rated Voltage (DC): 200V
footprint WCAP-CSMH_0805_H0.8_Reflow
footprint WCAP-CSMH_0805_H0.8_Wave
simulation model 0805_885342207002_470pF
pins: 1, 2

## 885342207003
designator C?, comment 1nF  (value not drawn)
WCAP-CSMH Multilayer Ceramic Chip Capacitor Mid and High Voltage, SMT, size 0805, X7R Class II, 1nF, 200V; Manufacturer Part Number: 885342207003; Manufacturer: Wurth Elektronik; Case/Size Code: 0805; Capacitance Tolerance: +/-10%; Dissipation Factor: 2.5%; Insulation Resistance: 10GΩ; Category: Multilayer Ceramic Chip Capacitors; Match Code: WCAP-CSMH; ComponentLink1Description: Website Link; ComponentLink1URL: https://www.we-online.com/redexpert/article/885342207003?ad; ComponentLink2Description: Datasheet Link; ComponentLink2URL: https://www.we-online.com/redexpert/spec/885342207003?ad; Mount: Surface Mount; Min Operating Temperature: -55°C; Max Operating Temperature: 125°C; Packaging: Tape and Reel; Length: 2mm; Width: 1.25mm; Height: 0.8mm; Capacitance: 1nF; Ceramic Type: X7R Class II; Rated Voltage (DC): 200V
footprint WCAP-CSMH_0805_H0.8_Reflow
footprint WCAP-CSMH_0805_H0.8_Wave
simulation model 0805_885342207003_1nF
pins: 1, 2

## 885342207004
designator C?, comment 4.7nF  (value not drawn)
WCAP-CSMH Multilayer Ceramic Chip Capacitor Mid and High Voltage, SMT, size 0805, X7R Class II, 4.7nF, 200V; Manufacturer Part Number: 885342207004; Manufacturer: Wurth Elektronik; Case/Size Code: 0805; Capacitance Tolerance: +/-10%; Dissipation Factor: 2.5%; Insulation Resistance: 10GΩ; Category: Multilayer Ceramic Chip Capacitors; Match Code: WCAP-CSMH; ComponentLink1Description: Website Link; ComponentLink1URL: https://www.we-online.com/redexpert/article/885342207004?ad; ComponentLink2Description: Datasheet Link; ComponentLink2URL: https://www.we-online.com/redexpert/spec/885342207004?ad; Mount: Surface Mount; Min Operating Temperature: -55°C; Max Operating Temperature: 125°C; Packaging: Tape and Reel; Length: 2mm; Width: 1.25mm; Height: 0.8mm; Capacitance: 4.7nF; Ceramic Type: X7R Class II; Rated Voltage (DC): 200V
footprint WCAP-CSMH_0805_H0.8_Reflow
footprint WCAP-CSMH_0805_H0.8_Wave
simulation model 0805_885342207004_4.7nF
pins: 1, 2

## 885342207005
designator C?, comment 10nF  (value not drawn)
WCAP-CSMH Multilayer Ceramic Chip Capacitor Mid and High Voltage, SMT, size 0805, X7R Class II, 10nF, 200V; Manufacturer Part Number: 885342207005; Manufacturer: Wurth Elektronik; Case/Size Code: 0805; Capacitance Tolerance: +/-10%; Dissipation Factor: 2.5%; Insulation Resistance: 10GΩ; Category: Multilayer Ceramic Chip Capacitors; Match Code: WCAP-CSMH; ComponentLink1Description: Website Link; ComponentLink1URL: https://www.we-online.com/redexpert/article/885342207005?ad; ComponentLink2Description: Datasheet Link; ComponentLink2URL: https://www.we-online.com/redexpert/spec/885342207005?ad; Mount: Surface Mount; Min Operating Temperature: -55°C; Max Operating Temperature: 125°C; Packaging: Tape and Reel; Length: 2mm; Width: 1.25mm; Height: 1.25mm; Capacitance: 10nF; Ceramic Type: X7R Class II; Rated Voltage (DC): 200V
footprint WCAP-CSMH_0805_H1.25
simulation model 0805_885342207005_10nF
pins: 1, 2

## 885342207006
designator C?, comment 22nF  (value not drawn)
WCAP-CSMH Multilayer Ceramic Chip Capacitor Mid and High Voltage, SMT, size 0805, X7R Class II, 22nF, 200V; Manufacturer Part Number: 885342207006; Manufacturer: Wurth Elektronik; Case/Size Code: 0805; Capacitance Tolerance: +/-10%; Dissipation Factor: 2.5%; Insulation Resistance: 4.545GΩ; Category: Multilayer Ceramic Chip Capacitors; Match Code: WCAP-CSMH; ComponentLink1Description: Website Link; ComponentLink1URL: https://www.we-online.com/redexpert/article/885342207006?ad; ComponentLink2Description: Datasheet Link; ComponentLink2URL: https://www.we-online.com/redexpert/spec/885342207006?ad; Mount: Surface Mount; Min Operating Temperature: -55°C; Max Operating Temperature: 125°C; Packaging: Tape and Reel; Length: 2mm; Width: 1.25mm; Height: 1.25mm; Capacitance: 22nF; Ceramic Type: X7R Class II; Rated Voltage (DC): 200V
footprint WCAP-CSMH_0805_H1.25
simulation model 0805_885342207006_22nF
pins: 1, 2

## 885342207007
designator C?, comment 470pF  (value not drawn)
WCAP-CSMH Multilayer Ceramic Chip Capacitor Mid and High Voltage, SMT, size 0805, X7R Class II, 470pF, 250V; Manufacturer Part Number: 885342207007; Manufacturer: Wurth Elektronik; Case/Size Code: 0805; Capacitance Tolerance: +/-10%; Dissipation Factor: 2.5%; Insulation Resistance: 10GΩ; Category: Multilayer Ceramic Chip Capacitors; Match Code: WCAP-CSMH; ComponentLink1Description: Website Link; ComponentLink1URL: https://www.we-online.com/redexpert/article/885342207007?ad; ComponentLink2Description: Datasheet Link; ComponentLink2URL: https://www.we-online.com/redexpert/spec/885342207007?ad; Mount: Surface Mount; Min Operating Temperature: -55°C; Max Operating Temperature: 125°C; Packaging: Tape and Reel; Length: 2mm; Width: 1.25mm; Height: 0.8mm; Capacitance: 470pF; Ceramic Type: X7R Class II; Rated Voltage (DC): 250V
footprint WCAP-CSMH_0805_H0.8_Reflow
footprint WCAP-CSMH_0805_H0.8_Wave
simulation model 0805_885342207007_470pF
pins: 1, 2

## 885342207008
designator C?, comment 1nF  (value not drawn)
WCAP-CSMH Multilayer Ceramic Chip Capacitor Mid and High Voltage, SMT, size 0805, X7R Class II, 1nF, 250V; Manufacturer Part Number: 885342207008; Manufacturer: Wurth Elektronik; Case/Size Code: 0805; Capacitance Tolerance: +/-10%; Dissipation Factor: 2.5%; Insulation Resistance: 10GΩ; Category: Multilayer Ceramic Chip Capacitors; Match Code: WCAP-CSMH; ComponentLink1Description: Website Link; ComponentLink1URL: https://www.we-online.com/redexpert/article/885342207008?ad; ComponentLink2Description: Datasheet Link; ComponentLink2URL: https://www.we-online.com/redexpert/spec/885342207008?ad; Mount: Surface Mount; Min Operating Temperature: -55°C; Max Operating Temperature: 125°C; Packaging: Tape and Reel; Length: 2mm; Width: 1.25mm; Height: 0.8mm; Capacitance: 1nF; Ceramic Type: X7R Class II; Rated Voltage (DC): 250V
footprint WCAP-CSMH_0805_H0.8_Reflow
footprint WCAP-CSMH_0805_H0.8_Wave
simulation model 0805_885342207008_1nF
pins: 1, 2

## 885342207009
designator C?, comment 4.7nF  (value not drawn)
WCAP-CSMH Multilayer Ceramic Chip Capacitor Mid and High Voltage, SMT, size 0805, X7R Class II, 4.7nF, 250V; Manufacturer Part Number: 885342207009; Manufacturer: Wurth Elektronik; Case/Size Code: 0805; Capacitance Tolerance: +/-10%; Dissipation Factor: 2.5%; Insulation Resistance: 10GΩ; Category: Multilayer Ceramic Chip Capacitors; Match Code: WCAP-CSMH; ComponentLink1Description: Website Link; ComponentLink1URL: https://www.we-online.com/redexpert/article/885342207009?ad; ComponentLink2Description: Datasheet Link; ComponentLink2URL: https://www.we-online.com/redexpert/spec/885342207009?ad; Mount: Surface Mount; Min Operating Temperature: -55°C; Max Operating Temperature: 125°C; Packaging: Tape and Reel; Length: 2mm; Width: 1.25mm; Height: 0.8mm; Capacitance: 4.7nF; Ceramic Type: X7R Class II; Rated Voltage (DC): 250V
footprint WCAP-CSMH_0805_H0.8_Reflow
footprint WCAP-CSMH_0805_H0.8_Wave
simulation model 0805_885342207009_4.7nF
pins: 1, 2